# EAGLE library part STM32F767ZIT6 (library ForestVisionParts)
IC MCU 32BIT 2MB FLASH 144LQFP
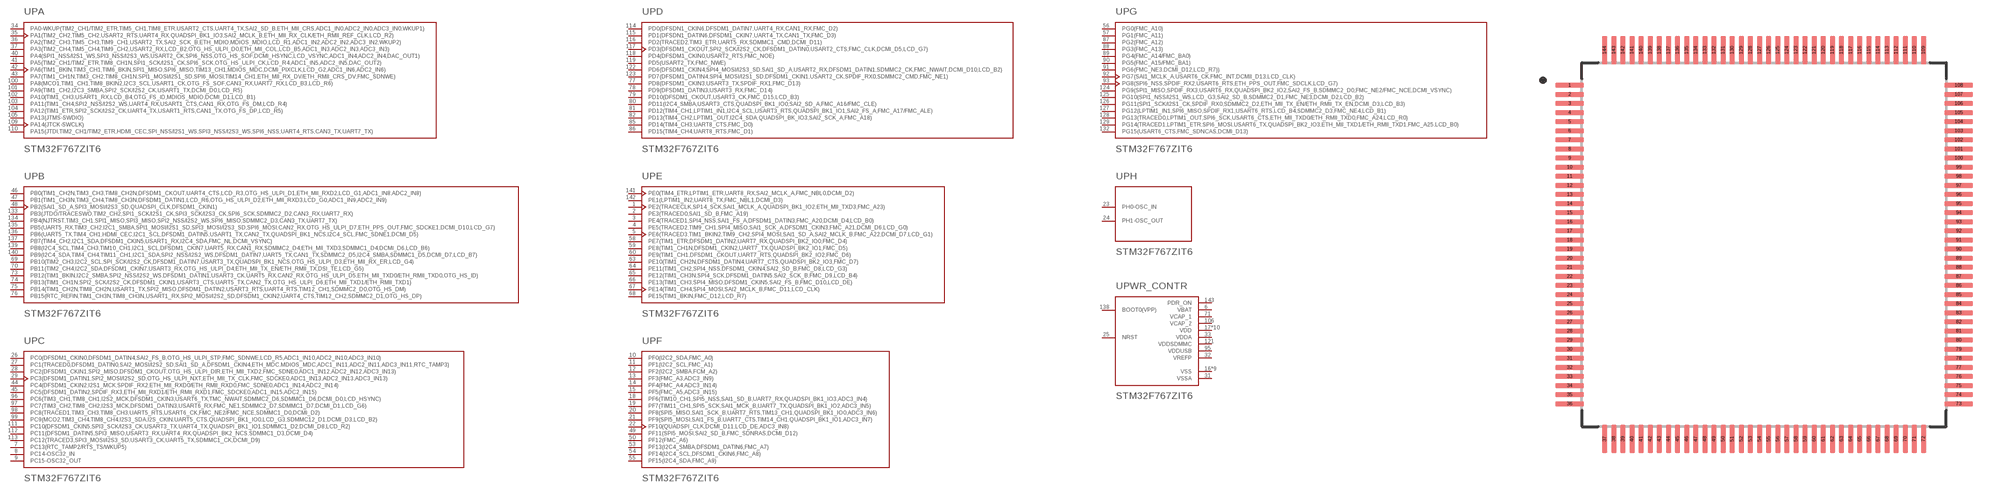
[diagram p9: symbol with the pads of QFP50P2200X2200X160-144N; footprint QFP50P2200X2200X160-144N]

Designator prefix U; gates PWR_CONTR=STM32F767ZIT6_SECTION1 PA=STM32F767ZIT6_SECTION2 PB=STM32F767ZIT6_SECTION3 PC=STM32F767ZIT6_SECTION4 PD=STM32F767ZIT6_SECTION5 PE=STM32F767ZIT6_SECTION6 PF=STM32F767ZIT6_SECTION7 PG=STM32F767ZIT6_SECTION8 PH=STM32F767ZIT6_SECTION9

## STM32F767ZIT6 (DESCRIPTION: High-performance and DSP with FPU, ARM Cortex-M7 MCU with 2 Mbytes Flash, 216 MHz CPU, Art Accelerator, L1 cache, SDR...; DIGI-KEY_PART_NUMBER: 497-16521-ND; DIGI-KEY_PURCHASE_URL: https://www.digikey.com/product-detail/en/stmicroelectronics/STM32F767ZIT6/497-16521-ND/6004736?utm_source=snapeda&utm_medium=aggregator&utm_campaign=symbol; MF: STMicroelectronics; MP: STM32F767ZIT6; PACKAGE: LQFP-144 STMicroelectronics)  [QFP50P2200X2200X160-144N]
1  PE:PE2(TRACECLK,SP14_SCK,SAI1_MCLK_A,QUADSPI_BK1_IO2,ETH_MII_TXD3,FMC_A23)
2  PE:PE3(TRACED0,SAI1_SD_B,FMC_A19)
3  PE:PE4(TRACED1,SPI4_NSS,SAI1_FS_A,DFSDM1_DATIN3,FMC_A20,DCMI_D4,LCD_B0)
4  PE:PE5(TRACED2,TIM9_CH1,SPI4_MISO,SAI1_SCK_A,DFSDM1_CKIN3,FMC_A21,DCMI_D6,LCD_G0)
5  PE:PE6(TRACED3,TIM1_BKIN2,TIM9_CH2,SPI4_MOSI,SAI1_SD_A,SAI2_MCLK_B,FMC_A22,DCMI_D7,LCD_G1)
6  PWR_CONTR:VBAT  pwr
7  PC:PC13(RTC_TAMP2/RTS_TS/WKUP5)
8  PC:PC14-OSC32_IN
9  PC:PC15-OSC32_OUT
10  PF:PF0(I2C2_SDA,FMC_A0)
11  PF:PF1(I2C2_SCL,FMC_A1)
12  PF:PF2(I2C2_SMBA,FCM_A2)
13  PF:PF3(FMC_A3,ADC3_IN9)
14  PF:PF4(FMC_A4,ADC3_IN14)
15  PF:PF5(FMC_A5,ADC3_IN15)
16  PWR_CONTR:VSS  pwr
17  PWR_CONTR:VDD  pwr
18  PF:PF6(TIM10_CH1,SPI5_NSS,SAI1_SD_B,UART7_RX,QUADSPI_BK1_IO3,ADC3_IN4)
19  PF:PF7(TIM11_CH1,SPI5_SCK,SAI1_MCK_B,UART7_TX,QUADSPI_BK1_IO2,ADC3_IN5)
20  PF:PF8(SPI5_MISO,SAI1_SCK_B,UART7_RTS,TIM13_CH1,QUADSPI_BK1_IO0,ADC3_IN6)
21  PF:PF9(SPI5_MOSI,SAI1_FS_B,UART7_CTS,TIM14_CH1,QUADSPI_BK1_IO1,ADC3_IN7)
22  PF:PF10(QUADSPI_CLK,DCMI_D11,LCD_DE,ADC3_IN8)
23  PH:PH0-OSC_IN
24  PH:PH1-OSC_OUT
25  PWR_CONTR:NRST
26  PC:PC0(DFSDM1_CKIN0,DFSDM1_DATIN4,SAI2_FS_B,OTG_HS_ULPI_STP,FMC_SDNWE,LCD_R5,ADC1_IN10,ADC2_IN10,ADC3_IN10)
27  PC:PC1(TRACED0,DFSDM1_DATIN0,SAI2_MOSI/I2S2_SD,SAI1_SD_A,DFSDM1_CKIN4,ETH_MDC,MDIOS_MDC,ADC1_IN11,ADC2_IN11,ADC3_IN11,RTC_TAMP3)
28  PC:PC2(DFSDM1_CKIN1,SPI2_MISO,DFSDM1_CKOUT,OTG_HS_ULPI_DIR,ETH_MII_TXD2,FMC_SDNE0,ADC1_IN12,ADC2_IN12,ADC3_IN13)
29  PC:PC3(DFSDM1_DATIN1,SPI2_MOSI/I2S2_SD,OTG_HS_ULPI_NXT,ETH_MII_TX_CLK,FMC_SDCKE0,ADC1_IN13,ADC2_IN13,ADC3_IN13)
30  PWR_CONTR:VDD  pwr
31  PWR_CONTR:VSSA  pwr
32  PWR_CONTR:VREFP  pwr
33  PWR_CONTR:VDDA  pwr
34  PA:PA0-WKUP(TIM2_CH1/TIM2_ETR,TIM5_CH1,TIM8_ETR,USART2_CTS,UART4_TX,SAI2_SD_B,ETH_MII_CRS,ADC1_IN0,ADC2_IN0,ADC3_IN0,WKUP1)
35  PA:PA1(TIM2_CH2,TIM5_CH2,USART2_RTS,UART4_RX,QUADSPI_BK1_IO3,SAI2_MCLK_B,ETH_MII_RX_CLK/ETH_RMII_REF_CLK,LCD_R2)
36  PA:PA2(TIM2_CH3,TIM5_CH3,TIM9_CH1,USART2_TX,SAI2_SCK_B,ETH_MDIO,MDIOS_MDIO,LCD_R1,ADC1_IN2,ADC2_IN2,ADC3_IN2,WKUP2)
37  PA:PA3(TIM2_CH4,TIM5_CH4,TIM9_CH2,USART2_RX,LCD_B2,OTG_HS_ULPI_D0,ETH_MII_COL,LCD_B5,ADC1_IN3,ADC2_IN3,ADC3_IN3)
38  PWR_CONTR:VSS  pwr
39  PWR_CONTR:VDD  pwr
40  PA:PA4(SPI1_NSS/I2S1_WS,SPI3_NSS/I2S3_WS,USART2_CK,SPI6_NSS,OTG_HS_SOF,DCMI_HSYNC,LCD_VSYNC,ADC1_IN4,ADC2_IN4,DAC_OUT1)
41  PA:PA5(TIM2_CH1/TIM2_ETR,TIM8_CH1N,SPI1_SCK/I2S1_CK,SPI6_SCK,OTG_HS_ULPI_CK,LCD_R4,ADC1_IN5,ADC2_IN5,DAC_OUT2)
42  PA:PA6(TIM1_BKIN,TIM3_CH1,TIM6_BKIN,SPI1_MISO,SPI6_MISO,TIM13_CH1,MDIOS_MDC,DCMI_PIXCLK,LCD_G2,ADC1_IN6,ADC2_IN6)
43  PA:PA7(TIM1_CH1N,TIM3_CH2,TIM8_CH1N,SPI1_MOSI/I2S1_SD,SPI6_MOSI,TIM14_CH1,ETH_MII_RX_DV/ETH_RMII_CRS_DV,FMC_SDNWE)
44  PC:PC4(DFSDM1_CKIN2,I2S1_MCK,SPDIF_RX2,ETH_MII_RXD0/ETH_RMII_RXD0,FMC_SDNE0,ADC1_IN14,ADC2_IN14)
45  PC:PC5(DFSDM1_DATIN2,SPDIF_RX3,ETH_MII_RXD1/ETH_RMII_RXD1,FMC_SDCKE0,ADC1_IN15,ADC2_IN15)
46  PB:PB0(TIM1_CH2N,TIM3_CH3,TIM8_CH2N,DFSDM1_CKOUT,UART4_CTS,LCD_R3,OTG_HS_ULPI_D1,ETH_MII_RXD2,LCD_G1,ADC1_IN8,ADC2_IN8)
47  PB:PB1(TIM1_CH3N,TIM3_CH4,TIM8_CH3N,DFSDM1_DATIN1,LCD_R6,OTG_HS_ULPI_D2,ETH_MII_RXD3,LCD_G0,ADC1_IN9,ADC2_IN9)
48  PB:PB2(SAI1_SD_A,SPI3_MOSI/I2S3_SD,QUADSPI_CLK,DFSDM1_CKIN1)
49  PF:PF11(SPI5_MOSI,SAI2_SD_B,FMC_SDNRAS,DCMI_D12)
50  PF:PF12(FMC_A6)
51  PWR_CONTR:VSS  pwr
52  PWR_CONTR:VDD  pwr
53  PF:PF13(I2C4_SMBA,DFSDM1_DATIN6,FMC_A7)
54  PF:PF14(I2C4_SCL,DFSDM1_CKIN6,FMC_A8)
55  PF:PF15(I2C4_SDA,FMC_A9)
56  PG:PG0(FMC_A10)
57  PG:PG1(FMC_A11)
58  PE:PE7(TIM1_ETR,DFSDM1_DATIN2,UART7_RX,QUADSPI_BK2_IO0,FMC_D4)
59  PE:PE8(TIM1_CH1N,DFSDM1_CKIN2,UART7_TX,QUADSPI_BK2_IO1,FMC_D5)
60  PE:PE9(TIM1_CH1,DFSDM1_CKOUT,UART7_RTS,QUADSPI_BK2_IO2,FMC_D6)
61  PWR_CONTR:VSS  pwr
62  PWR_CONTR:VDD  pwr
63  PE:PE10(TIM1_CH2N,DFSDM1_DATIN4,UART7_CTS,QUADSPI_BK2_IO3,FMC_D7)
64  PE:PE11(TIM1_CH2,SPI4_NSS,DFSDM1_CKIN4,SAI2_SD_B,FMC_D8,LCD_G3)
65  PE:PE12(TIM1_CH3N,SPI4_SCK,DFSDM1_DATIN5,SAI2_SCK_B,FMC_D9,LCD_B4)
66  PE:PE13(TIM1_CH3,SPI4_MISO,DFSDM1_CKIN5,SAI2_FS_B,FMC_D10,LCD_DE)
67  PE:PE14(TIM1_CH4,SPI4_MOSI,SAI2_MCLK_B,FMC_D11,LCD_CLK)
68  PE:PE15(TIM1_BKIN,FMC_D12,LCD_R7)
69  PB:PB10(TIM2_CH3,I2C2_SCL,SPI_SCK/I2S2_CK,DFSDM1_DATIN7,USART3_TX,QUADSPI_BK1_NCS,OTG_HS_ULPI_D3,ETH_MII_RX_ER,LCD_G4)
70  PB:PB11(TIM2_CH4,I2C2_SDA,DFSDM1_CKIN7,USART3_RX,OTG_HS_ULPI_D4,ETH_MII_TX_EN/ETH_RMII_TX,DSI_TE,LCD_G5)
71  PWR_CONTR:VCAP_1  pwr
72  PWR_CONTR:VDD  pwr
73  PB:PB12(TIM1_BKIN,I2C2_SMBA,SPI2_NSS/I2S2_WS,DFSDM1_DATIN1,USART3_CK,UART5_RX,CAN2_RX,OTG_HS_ULPI_D5,ETH_MII_TXD0/ETH_RMII_TXD0,OTG_HS_ID)
74  PB:PB13(TIM1_CH1N,SPI2_SCK/I2S2_CK,DFSDM1_CKIN1,USART3_CTS,UART5_TX,CAN2_TX,OTG_HS_ULPI_D6,ETH_MII_TXD1/ETH_RMII_TXD1)
75  PB:PB14(TIM1_CH2N,TIM8_CH2N,USART1_TX,SPI2_MISO,DFSDM1_DATIN2,USART3_RTS,UART4_RTS,TIM12_CH1,SDMMC2_D0,OTG_HS_DM)
76  PB:PB15(RTC_REFIN,TIM1_CH3N,TIM8_CH3N,USART1_RX,SPI2_MOSI/I2S2_SD,DFSDM1_CKIN2,UART4_CTS,TIM12_CH2,SDMMC2_D1,OTG_HS_DP)
77  PD:PD8(DFSDM1_CKIN3,USART3_TX,SPDIF_RX1,FMC_D13)
78  PD:PD9(DFSDM1_DATIN3,USART3_RX,FMC_D14)
79  PD:PD10(DFSDM1_CKOUT,USART3_CK,FMC_D15,LCD_B3)
80  PD:PD11(I2C4_SMBA,USART3_CTS,QUADSPI_BK1_IO0,SAI2_SD_A,FMC_A16/FMC_CLE)
81  PD:PD12(TIM4_CH1,LPTIM1_IN1,I2C4_SCL,USART3_RTS,QUADSPI_BK1_IO1,SAI2_FS_A,FMC_A17/FMC_ALE)
82  PD:PD13(TIM4_CH2,LPTIM1_OUT,I2C4_SDA,QUADSPI_BK_IO3,SAI2_SCK_A,FMC_A18)
83  PWR_CONTR:VSS  pwr
84  PWR_CONTR:VDD  pwr
85  PD:PD14(TIM4_CH3,UART8_CTS,FMC_D0)
86  PD:PD15(TIM4_CH4,UART8_RTS,FMC_D1)
87  PG:PG2(FMC_A12)
88  PG:PG3(FMC_A13)
89  PG:PG4(FMC_A14/FMC_BA0)
90  PG:PG5(FMC_A15/FMC_BA1)
91  PG:PG6(FMC_NE3,DCMI_D12,LCD_R7))
92  PG:PG7(SAI1_MCLK_A,USART6_CK,FMC_INT,DCMII_D13,LCD_CLK)
93  PG:PG8(SPI6_NSS,SPDIF_RX2,USART6_RTS,ETH_PPS_OUT,FMC_SDCLK,LCD_G7)
94  PWR_CONTR:VSS  pwr
95  PWR_CONTR:VDDUSB  pwr
96  PC:PC6(TIM3_CH1,TIM8_CH1,I2S2_MCK,DFSDM1_CKIN3,USART6_TX,TMC_NWAIT,SDMMC2_D6,SDMMC1_D6,DCMI_D0,LCD_HSYNC)
97  PC:PC7(TIM3_CH2,TIM8_CH2,I2S3_MCK,DFSDM1_DATIN3,USART6_RX,FMC_NE1,SDMMC2_D7,SDMMC1_D7,DCMI_D1,LCD_G6)
98  PC:PC8(TRACED1,TIM3_CH3,TIM8_CH3,UART5_RTS,USART6_CK,FMC_NE2/FMC_NCE,SDMMC1_D0,DCMI_D2)
99  PC:PC9(MCO2,TIM3_CH4,TIM8_CH4,I2S3_SDA,I2S_CKIN,UART5_CTS,QUADSPI_BK1_IO0,LCD_G3,SDMMC12_D1,DCMI_D3,LCD_B2)
100  PA:PA8(MCO1,TIM1_CH1,TIM8_BKIN2,I2C3_SCL,USART1_CK,OTG_FS_SOF,CAN3_RX,UART7_RX,LCD_B3,LCD_R6)
101  PA:PA9(TIM1_CH2,I2C3_SMBA,SPI2_SCK/I2S2_CK,USART1_TX,DCMI_D0,LCD_R5)
102  PA:PA10(TIM1_CH3,USART1_RX,LCD_B4,OTG_FS_ID,MDIOS_MDIO,DCMI_D1,LCD_B1)
103  PA:PA11(TIM1_CH4,SPI2_NSS/I2S2_WS,UART4_RX,USART1_CTS,CAN1_RX,OTG_FS_DM,LCD_R4)
104  PA:PA12(TIM1_ETR,SPI2_SCK/I2S2_CK,UART4_TX,USART1_RTS,CAN1_TX,OTG_FS_DP,LCD_R5)
105  PA:PA13(JTMS-SWDIO)
106  PWR_CONTR:VCAP_2  pwr
107  PWR_CONTR:VSS  pwr
108  PWR_CONTR:VDD  pwr
109  PA:PA14(JTCK-SWCLK)
110  PA:PA15(JTDI,TIM2_CH1/TIM2_ETR,HDMI_CEC,SPI_NSS/I2S1_WS,SPI3_NSS/I2S3_WS,SPI6_NSS,UART4_RTS,CAN3_TX,UART7_TX)
111  PC:PC10(DFSDM1_CKIN5,SPI3_SCK/I2S3_CK,USART3_TX,UART4_TX,QUADSPI_BK1_IO1,SDMMC1_D2,DCMI_D8,LCD_R2)
112  PC:PC11(DFSDM1_DATIN5,SPI3_MISO,USART3_RX,UART4_RX,QUADSPI_BK2_NCS,SDMMC1_D3,DCMI_D4)
113  PC:PC12(TRACED3,SPI3_MOSI/I2S3_SD,USART3_CK,UART5_TX,SDMMC1_CK,DCMI_D9)
114  PD:PD0(DFSDN1_CKIN6,DFSDM1_DATIN7,UART4_RX,CAN1_RX,FMC_D2)
115  PD:PD1(DFSDN1_DATIN6,DFSDM1_CKIN7,UART4_TX,CAN1_TX,FMC_D3)
116  PD:PD2(TRACED2,TIM3_ETR,UART5_RX,SDMMC1_CMD,DCMI_D11)
117  PD:PD3(DFSDM1_CKOUT,SPI2_SCK/I2S2_CK,DFSDM1_DATIN0,USART2_CTS,FMC_CLK,DCMI_D5,LCD_G7)
118  PD:PD4(DFSDM1_CKIN0,USART2_RTS,FMC_NOE)
119  PD:PD5(USART2_TX,FMC_NWE)
120  PWR_CONTR:VSS  pwr
121  PWR_CONTR:VDDSDMMC  pwr
122  PD:PD6(DFSDM1_CKIN4,SPI4_MOSI/I2S3_SD,SAI1_SD_A,USART2_RX,DFSDM1_DATIN1,SDMMC2_CK,FMC_NWAIT,DCMI_D10,LCD_B2)
123  PD:PD7(DFSDM1_DATIN4,SPI4_MOSI/I2S1_SD,DFSDM1_CKIN1,USART2_CK,SPDIF_RX0,SDMMC2_CMD,FMC_NE1)
124  PG:PG9(SPI1_MISO,SPDIF_RX3,USART6_RX,QUADSPI_BK2_IO2,SAI2_FS_B,SDMMC2_D0,FMC_NE2/FMC_NCE,DCMI_VSYNC)
125  PG:PG10(SPI1_NSS/I2S1_WS,LCD_G3,SAI2_SD_B,SDMMC2_D1,FMC_NE3,DCMI_D2,LCD_B2)
126  PG:PG11(SPI1_SCK/I2S1_CK,SPDIF_RX0,SDMMC2_D2,ETH_MII_TX_EN/ETH_RMII_TX_EN,DCMI_D3,LCD_B3)
127  PG:PG12(LPTIM1_IN1,SPI6_MISO,SPDIF_RX1,USART6_RTS,LCD_B4,SDMMC2_D3,FMC_NE4,LCD_B1)
128  PG:PG13(TRACED0,LPTIM1_OUT,SPI6_SCK,USART6_CTS,ETH_MII_TXD0/ETH_RMII_TXD0,FMC_A24,LCD_R0)
129  PG:PG14(TRACED1,LPTIM1_ETR,SPI6_MOSI,USART6_TX,QUADSPI_BK2_IO3,ETH_MII_TXD1/ETH_RMII_TXD1,FMC_A25,LCD_B0)
130  PWR_CONTR:VSS  pwr
131  PWR_CONTR:VDD  pwr
132  PG:PG15(USART6_CTS,FMC_SDNCAS,DCMI_D13)
133  PB:PB3(JTDO/TRACESWO,TIM2_CH2,SPI1_SCK/I2S1_CK,SPI3_SCK/I2S3_CK,SPI6_SCK,SDMMC2_D2,CAN3_RX,UART7_RX)
134  PB:PB4(NJTRST,TIM3_CH1,SPI1_MISO,SPI3_MISO,SPI2_NSS/I2S2_WS,SPI6_MISO,SDMMC2_D3,CAN3_TX,UART7_TX)
135  PB:PB5(UART5_RX,TIM3_CH2,I2C1_SMBA,SPI1_MOSI/I2S1_SD,SPI3_MOSI/I2S3_SD,SPI6_MOSI,CAN2_RX,OTG_HS_ULPI_D7,ETH_PPS_OUT,FMC_SDCKE1,DCMI_D10,LCD_G7)
136  PB:PB6(UART5_TX,TIM4_CH1,HDMI_CEC,I2C1_SCL,DFSDM1_DATIN5,USART1_TX,CAN2_TX,QUADSPI_BK1_NCS,I2C4_SCL,FMC_SDNE1,DCMI_D5)
137  PB:PB7(TIM4_CH2,I2C1_SDA,DFSDM1_CKIN5,USART1_RX,I2C4_SDA,FMC_NL,DCMI_VSYNC)
138  PWR_CONTR:BOOT0(VPP)  in
139  PB:PB8(I2C4_SCL,TIM4_CH3,TIM10_CH1,I2C1_SCL,DFSDM1_CKIN7,UART5_RX,CAN1_RX,SDMMC2_D4,ETH_MII_TXD3,SDMMC1_D4,DCMI_D6,LCD_B6)
140  PB:PB9(I2C4_SDA,TIM4_CH4,TIM11_CH1,I2C1_SDA,SPI2_NSS/I2S2_WS,DFSDM1_DATIN7,UART5_TX,CAN1_TX,SDMMC2_D5,I2C4_SMBA,SDMMC1_D5,DCMI_D7,LCD_B7)
141  PE:PE0(TIM4_ETR,LPTIM1_ETR,UART8_RX,SAI2_MCLK_A,FMC_NBL0,DCMI_D2)
142  PE:PE1(LPTIM1_IN2,UART8_TX,FMC_NBL1,DCMI_D3)
143  PWR_CONTR:PDR_ON  pwr
144  PWR_CONTR:VDD  pwr

## Footprint QFP50P2200X2200X160-144N (pad centres in mm)
smd 1.56 x 0.28: 1 -10.68,8.75; 2 -10.68,8.25; 3 -10.68,7.75; 4 -10.68,7.25; 5 -10.68,6.75; 6 -10.68,6.25; 7 -10.68,5.75; 8 -10.68,5.25; 9 -10.68,4.75; 10 -10.68,4.25; 11 -10.68,3.75; 12 -10.68,3.25; 13 -10.68,2.75; 14 -10.68,2.25; 15 -10.68,1.75; 16 -10.68,1.25; 17 -10.68,0.75; 18 -10.68,0.25; 19 -10.68,-0.25; 20 -10.68,-0.75; 21 -10.68,-1.25; 22 -10.68,-1.75; 23 -10.68,-2.25; 24 -10.68,-2.75; 25 -10.68,-3.25; 26 -10.68,-3.75; 27 -10.68,-4.25; 28 -10.68,-4.75; 29 -10.68,-5.25; 30 -10.68,-5.75; 31 -10.68,-6.25; 32 -10.68,-6.75; 33 -10.68,-7.25; 34 -10.68,-7.75; 35 -10.68,-8.25; 36 -10.68,-8.75; 73 10.68,-8.75; 74 10.68,-8.25; 75 10.68,-7.75; 76 10.68,-7.25; 77 10.68,-6.75; 78 10.68,-6.25; 79 10.68,-5.75; 80 10.68,-5.25; 81 10.68,-4.75; 82 10.68,-4.25; 83 10.68,-3.75; 84 10.68,-3.25; 85 10.68,-2.75; 86 10.68,-2.25; 87 10.68,-1.75; 88 10.68,-1.25; 89 10.68,-0.75; 90 10.68,-0.25; 91 10.68,0.25; 92 10.68,0.75; 93 10.68,1.25; 94 10.68,1.75; 95 10.68,2.25; 96 10.68,2.75; 97 10.68,3.25; 98 10.68,3.75; 99 10.68,4.25; 100 10.68,4.75; 101 10.68,5.25; 102 10.68,5.75; 103 10.68,6.25; 104 10.68,6.75; 105 10.68,7.25; 106 10.68,7.75; 107 10.68,8.25; 108 10.68,8.75
smd 0.28 x 1.56: 37 -8.75,-10.68; 38 -8.25,-10.68; 39 -7.75,-10.68; 40 -7.25,-10.68; 41 -6.75,-10.68; 42 -6.25,-10.68; 43 -5.75,-10.68; 44 -5.25,-10.68; 45 -4.75,-10.68; 46 -4.25,-10.68; 47 -3.75,-10.68; 48 -3.25,-10.68; 49 -2.75,-10.68; 50 -2.25,-10.68; 51 -1.75,-10.68; 52 -1.25,-10.68; 53 -0.75,-10.68; 54 -0.25,-10.68; 55 0.25,-10.68; 56 0.75,-10.68; 57 1.25,-10.68; 58 1.75,-10.68; 59 2.25,-10.68; 60 2.75,-10.68; 61 3.25,-10.68; 62 3.75,-10.68; 63 4.25,-10.68; 64 4.75,-10.68; 65 5.25,-10.68; 66 5.75,-10.68; 67 6.25,-10.68; 68 6.75,-10.68; 69 7.25,-10.68; 70 7.75,-10.68; 71 8.25,-10.68; 72 8.75,-10.68; 109 8.75,10.68; 110 8.25,10.68; 111 7.75,10.68; 112 7.25,10.68; 113 6.75,10.68; 114 6.25,10.68; 115 5.75,10.68; 116 5.25,10.68; 117 4.75,10.68; 118 4.25,10.68; 119 3.75,10.68; 120 3.25,10.68; 121 2.75,10.68; 122 2.25,10.68; 123 1.75,10.68; 124 1.25,10.68; 125 0.75,10.68; 126 0.25,10.68; 127 -0.25,10.68; 128 -0.75,10.68; 129 -1.25,10.68; 130 -1.75,10.68; 131 -2.25,10.68; 132 -2.75,10.68; 133 -3.25,10.68; 134 -3.75,10.68; 135 -4.25,10.68; 136 -4.75,10.68; 137 -5.25,10.68; 138 -5.75,10.68; 139 -6.25,10.68; 140 -6.75,10.68; 141 -7.25,10.68; 142 -7.75,10.68; 143 -8.25,10.68; 144 -8.75,10.68